# Altium integrated library NSC OtherParts.IntLib: 55 symbols (part 1 of 2)
Pins are listed as number, name and electrical type; pins without a type are passive.

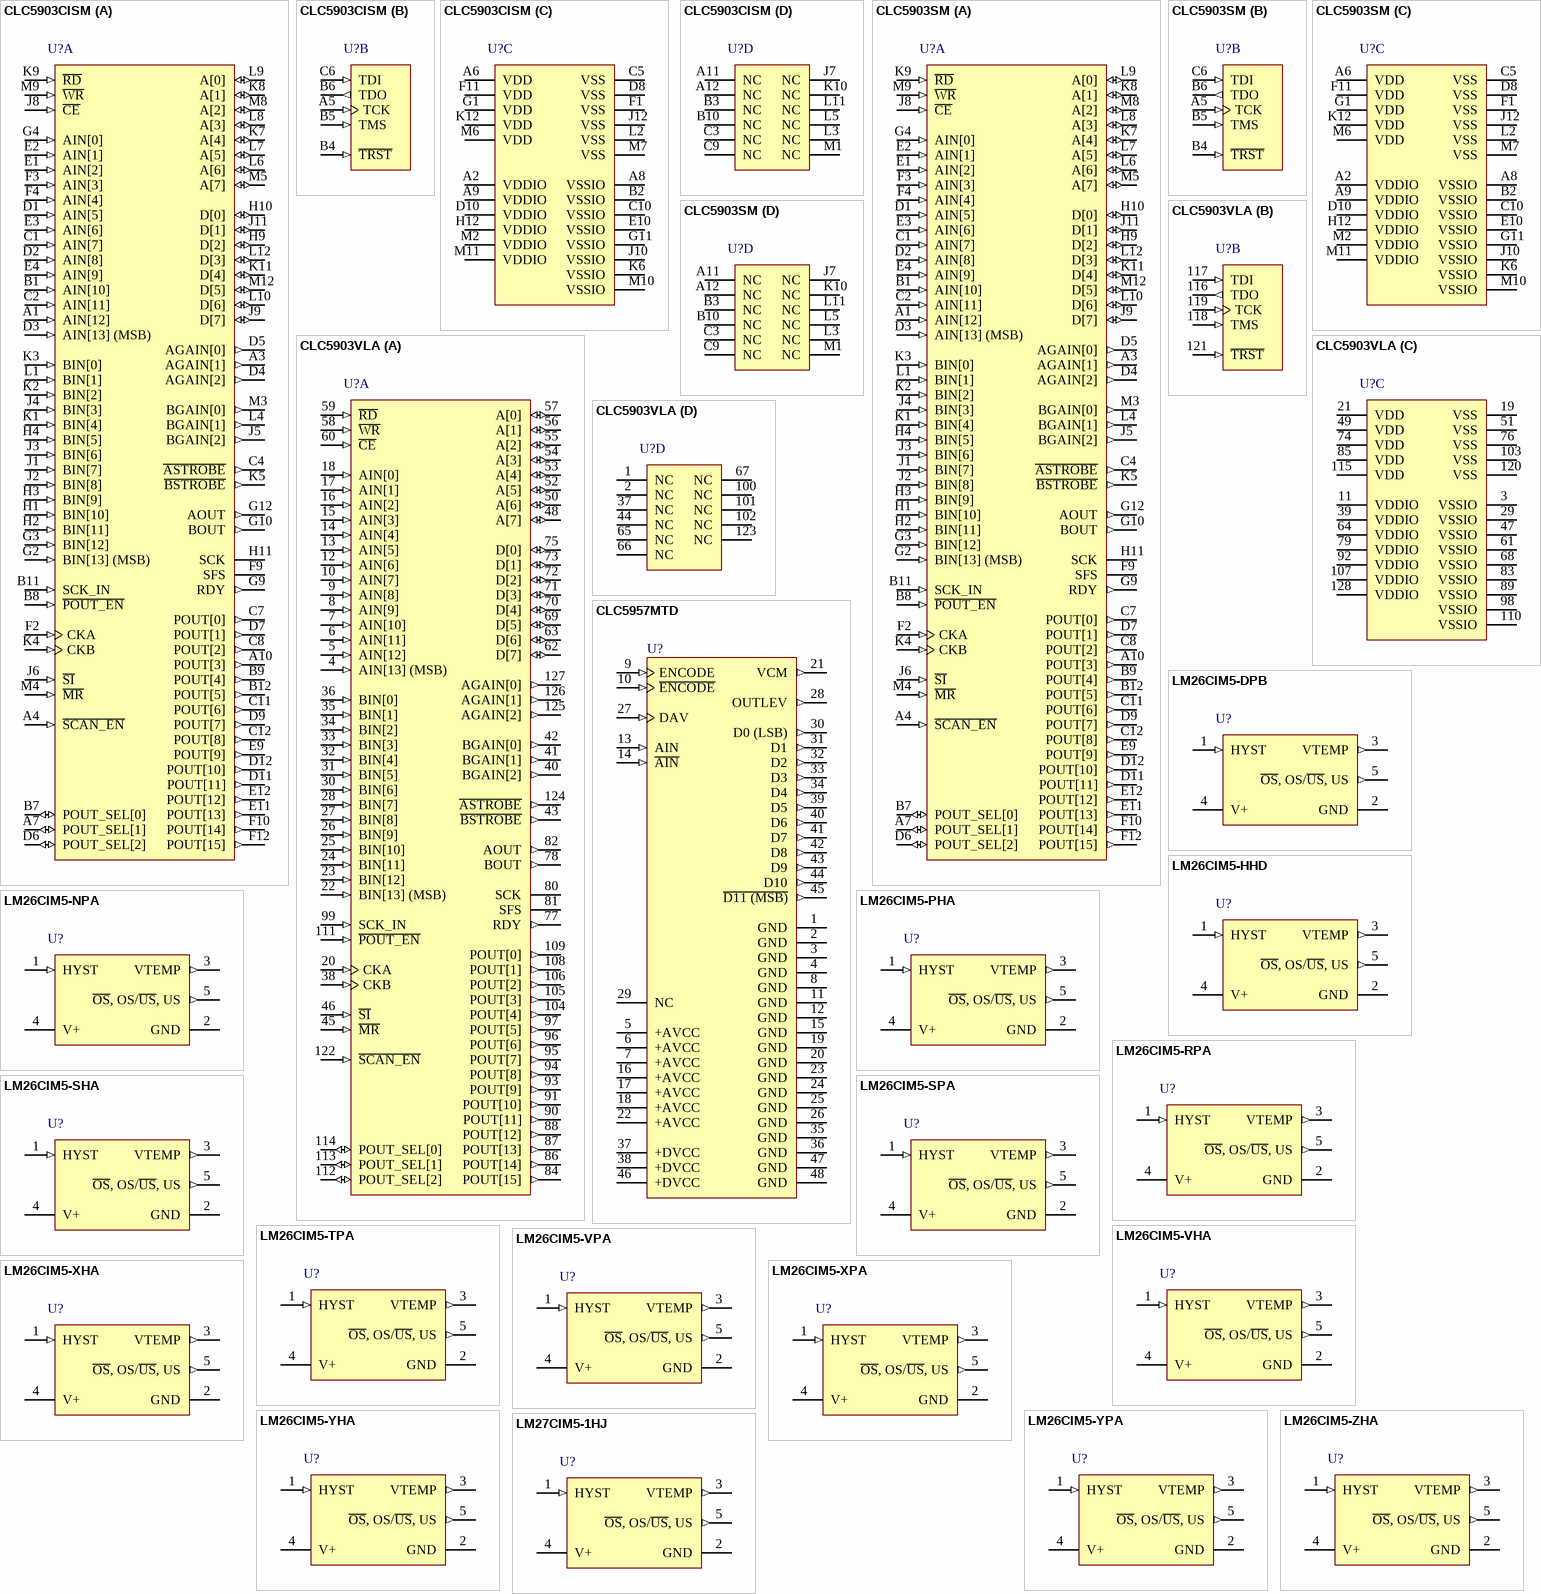
[diagram p0: symbols CLC5903CISM to LM27CIM5-1HJ]

## CLC5903CISM
designator U?
Dual Digital Tuner/AGC; PartNumber: CLC5903CISM; Manufacturer: National Semiconductor; CompType: OtherParts; PackageTopMarking: NSUZXYTT*CLC5903*CISM; Published: 4-Dec-2008; DatasheetVersion: Jun-2004; PackageVersion: revA, Nov-2005; PackageReference: SLC128B; Publisher: Altium Limited; PackageDescription: FBGA, Plastic, Laminated, 11 x 11 x 1.4mm Body, 128 Ball, 0.8mm Pitch; RoHS: Y; PinCount: 128; ComponentLink1Description: CLC5903 Datasheet; ComponentLink1URL: http://www.national.com/ds/CL/CLC5903.pdf; ComponentLink2Description: CLC5903 Web Page; ComponentLink2URL: http://www.national.com/pf/CL/CLC5903.html; ComponentLink3Description: SLC128B Package Page; ComponentLink3URL: http://www.national.com/packaging/folders/slc128b.html
footprint SLC128B (BGA, 128-Leads, Body 11x11mm, Pitch 0.8mm)
part A pins: A1 AIN[12] (in), A3 AGAIN[1] (out), A4 ~{SCAN_EN} (in), A7 POUT_SEL[1] (io), A10 POUT[3] (out), B1 AIN[10] (in), B7 POUT_SEL[0] (io), B8 ~{POUT_EN} (in), B9 POUT[4] (out), B11 SCK_IN (in), B12 POUT[5] (out), C1 AIN[7] (in), C2 AIN[11] (in), C4 ~{ASTROBE} (out), C7 POUT[0] (out), C8 POUT[2] (out), C11 POUT[6] (out), C12 POUT[8] (out), D1 AIN[5] (in), D2 AIN[8] (in), D3 AIN[13] (MSB) (in), D4 AGAIN[2] (out), D5 AGAIN[0] (out), D6 POUT_SEL[2] (io), D7 POUT[1] (out), D9 POUT[7] (out), D11 POUT[11] (out), D12 POUT[10] (out), E1 AIN[2] (in), E2 AIN[1] (in), E3 AIN[6] (in), E4 AIN[9] (in), E9 POUT[9] (out), E11 POUT[13] (out), E12 POUT[12] (out), F2 CKA (in), F3 AIN[3] (in), F4 AIN[4] (in), F9 SFS, F10 POUT[14] (out), F12 POUT[15] (out), G2 BIN[13] (MSB) (in), G3 BIN[12] (in), G4 AIN[0] (in), G9 RDY (out), G10 BOUT (out), G12 AOUT (out), H1 BIN[10] (in), H2 BIN[11] (in), H3 BIN[9] (in), H4 BIN[5] (in), H9 D[2] (io), H10 D[0] (io), H11 SCK, J1 BIN[7] (in), J2 BIN[8] (in), J3 BIN[6] (in), J4 BIN[3] (in), J5 BGAIN[2] (out), J6 ~{SI} (in), J8 ~{CE} (in), J9 D[7] (io), J11 D[1] (io), K1 BIN[4] (in), K2 BIN[2] (in), K3 BIN[0] (in), K4 CKB (in), K5 ~{BSTROBE} (out), K7 A[4] (io), K8 A[1] (io), K9 ~{RD} (in), K11 D[4] (io), L1 BIN[1] (in), L4 BGAIN[1] (out), L6 A[6] (io), L7 A[5] (io), L8 A[3] (io), L9 A[0] (io), L10 D[6] (io), L12 D[3] (io), M3 BGAIN[0] (out), M4 ~{MR} (in), M5 A[7] (io), M8 A[2] (io), M9 ~{WR} (in), M12 D[5] (io)
part B pins: A5 TCK (in), B4 ~{TRST} (in), B5 TMS (in), B6 TDO (out), C6 TDI (in)
part C pins: A2 VDDIO (power), A6 VDD (power), A8 VSSIO (power), A9 VDDIO (power), B2 VSSIO (power), C5 VSS (power), C10 VSSIO (power), D8 VSS (power), D10 VDDIO (power), E10 VSSIO (power), F1 VSS (power), F11 VDD (power), G1 VDD (power), G11 VSSIO (power), H12 VDDIO (power), J10 VSSIO (power), J12 VSS (power), K6 VSSIO (power), K12 VDD (power), L2 VSS (power), M2 VDDIO (power), M6 VDD (power), M7 VSS (power), M10 VSSIO (power), M11 VDDIO (power)
part D pins: A11 NC, A12 NC, B3 NC, B10 NC, C3 NC, C9 NC, J7 NC, K10 NC, L3 NC, L5 NC, L11 NC, M1 NC

## CLC5903SM
designator U?
Dual Digital Tuner / AGC; PartNumber: CLC5903SM; Manufacturer: National Semiconductor; CompType: OtherParts; PackageTopMarking: NSUZXYYTT*CLC5903SM; Published: 4-Dec-2008; DatasheetVersion: Jun-2004; PackageVersion: revA, Oct-2003; PackageReference: SLC128A; Publisher: Altium Limited; PackageDescription: FBGA, Plastic, Laminated, 11 x 11 x 1.4mm Body, 128 Ball, 0.8mm Pitch; RoHS: O; PinCount: 128; DigiKeyPartNumber: CLC5903SM-ND; ComponentLink1Description: CLC5903 Datasheet; ComponentLink1URL: http://www.national.com/ds.cgi/CL/CLC5903.pdf; ComponentLink2Description: CLC5903 Web Page; ComponentLink2URL: http://www.national.com/pf/CL/CLC5903.html; ComponentLink3Description: SLC128A package page; ComponentLink3URL: http://www.national.com/packaging/folders/slc128a.html
footprint SLC128A (BGA, 128-Leads, Body 11x11mm, Pitch 0.8mm)
part A pins: A1 AIN[12] (in), A3 AGAIN[1] (out), A4 ~{SCAN_EN} (in), A7 POUT_SEL[1] (io), A10 POUT[3] (out), B1 AIN[10] (in), B7 POUT_SEL[0] (io), B8 ~{POUT_EN} (in), B9 POUT[4] (out), B11 SCK_IN (in), B12 POUT[5] (out), C1 AIN[7] (in), C2 AIN[11] (in), C4 ~{ASTROBE} (out), C7 POUT[0] (out), C8 POUT[2] (out), C11 POUT[6] (out), C12 POUT[8] (out), D1 AIN[5] (in), D2 AIN[8] (in), D3 AIN[13] (MSB) (in), D4 AGAIN[2] (out), D5 AGAIN[0] (out), D6 POUT_SEL[2] (io), D7 POUT[1] (out), D9 POUT[7] (out), D11 POUT[11] (out), D12 POUT[10] (out), E1 AIN[2] (in), E2 AIN[1] (in), E3 AIN[6] (in), E4 AIN[9] (in), E9 POUT[9] (out), E11 POUT[13] (out), E12 POUT[12] (out), F2 CKA (in), F3 AIN[3] (in), F4 AIN[4] (in), F9 SFS, F10 POUT[14] (out), F12 POUT[15] (out), G2 BIN[13] (MSB) (in), G3 BIN[12] (in), G4 AIN[0] (in), G9 RDY (out), G10 BOUT (out), G12 AOUT (out), H1 BIN[10] (in), H2 BIN[11] (in), H3 BIN[9] (in), H4 BIN[5] (in), H9 D[2] (io), H10 D[0] (io), H11 SCK, J1 BIN[7] (in), J2 BIN[8] (in), J3 BIN[6] (in), J4 BIN[3] (in), J5 BGAIN[2] (out), J6 ~{SI} (in), J8 ~{CE} (in), J9 D[7] (io), J11 D[1] (io), K1 BIN[4] (in), K2 BIN[2] (in), K3 BIN[0] (in), K4 CKB (in), K5 ~{BSTROBE} (out), K7 A[4] (io), K8 A[1] (io), K9 ~{RD} (in), K11 D[4] (io), L1 BIN[1] (in), L4 BGAIN[1] (out), L6 A[6] (io), L7 A[5] (io), L8 A[3] (io), L9 A[0] (io), L10 D[6] (io), L12 D[3] (io), M3 BGAIN[0] (out), M4 ~{MR} (in), M5 A[7] (io), M8 A[2] (io), M9 ~{WR} (in), M12 D[5] (io)
part B pins: A5 TCK (in), B4 ~{TRST} (in), B5 TMS (in), B6 TDO (out), C6 TDI (in)
part C pins: A2 VDDIO (power), A6 VDD (power), A8 VSSIO (power), A9 VDDIO (power), B2 VSSIO (power), C5 VSS (power), C10 VSSIO (power), D8 VSS (power), D10 VDDIO (power), E10 VSSIO (power), F1 VSS (power), F11 VDD (power), G1 VDD (power), G11 VSSIO (power), H12 VDDIO (power), J10 VSSIO (power), J12 VSS (power), K6 VSSIO (power), K12 VDD (power), L2 VSS (power), M2 VDDIO (power), M6 VDD (power), M7 VSS (power), M10 VSSIO (power), M11 VDDIO (power)
part D pins: A11 NC, A12 NC, B3 NC, B10 NC, C3 NC, C9 NC, J7 NC, K10 NC, L3 NC, L5 NC, L11 NC, M1 NC

## CLC5903VLA
designator U?
Dual Digital Tuner / AGC; PartNumber: CLC5903VLA; Manufacturer: National Semiconductor; CompType: OtherParts; PackageTopMarking: NSUZXYYTTE*CLC5903VLA; Published: 4-Dec-2008; DatasheetVersion: Jun-2004; PackageVersion: revC, Jun-1998; PackageReference: VLA128A; Publisher: Altium Limited; PackageDescription: PQFP, (S), 14 x 20 x 2.7mm, 128 Lead; RoHS: O; PinCount: 128; DigiKeyPartNumber: CLC5903VLA-ND; ComponentLink1Description: CLC5903 Datasheet; ComponentLink1URL: http://www.national.com/ds.cgi/CL/CLC5903.pdf; ComponentLink2Description: CLC5903 Web Page; ComponentLink2URL: http://www.national.com/pf/CL/CLC5903.html; ComponentLink3Description: VLA128A package page; ComponentLink3URL: http://www.national.com/packaging/folders/vla128a.html
footprint VLA128A_N (Shrink QFP, 128-Leads, Body 20x14 mm, Pitch 0.5mm, IPC Medium Density)
footprint VLA128A_L (Shrink QFP, 128-Leads, Body 20x14 mm, Pitch 0.5mm, IPC High Density)
footprint VLA128A_M (Shrink QFP, 128-Leads, Body 20x14 mm, Pitch 0.5mm, IPC Low Density)
part A pins: 4 AIN[13] (MSB) (in), 5 AIN[12] (in), 6 AIN[11] (in), 7 AIN[10] (in), 8 AIN[9] (in), 9 AIN[8] (in), 10 AIN[7] (in), 12 AIN[6] (in), 13 AIN[5] (in), 14 AIN[4] (in), 15 AIN[3] (in), 16 AIN[2] (in), 17 AIN[1] (in), 18 AIN[0] (in), 20 CKA (in), 22 BIN[13] (MSB) (in), 23 BIN[12] (in), 24 BIN[11] (in), 25 BIN[10] (in), 26 BIN[9] (in), 27 BIN[8] (in), 28 BIN[7] (in), 30 BIN[6] (in), 31 BIN[5] (in), 32 BIN[4] (in), 33 BIN[3] (in), 34 BIN[2] (in), 35 BIN[1] (in), 36 BIN[0] (in), 38 CKB (in), 40 BGAIN[2] (out), 41 BGAIN[1] (out), 42 BGAIN[0] (out), 43 ~{BSTROBE} (out), 45 ~{MR} (in), 46 ~{SI} (in), 48 A[7] (io), 50 A[6] (io), 52 A[5] (io), 53 A[4] (io), 54 A[3] (io), 55 A[2] (io), 56 A[1] (io), 57 A[0] (io), 58 ~{WR} (in), 59 ~{RD} (in), 60 ~{CE} (in), 62 D[7] (io), 63 D[6] (io), 69 D[5] (io), 70 D[4] (io), 71 D[3] (io), 72 D[2] (io), 73 D[1] (io), 75 D[0] (io), 77 RDY (out), 78 BOUT (out), 80 SCK, 81 SFS, 82 AOUT (out), 84 POUT[15] (out), 86 POUT[14] (out), 87 POUT[13] (out), 88 POUT[12] (out), 90 POUT[11] (out), 91 POUT[10] (out), 93 POUT[9] (out), 94 POUT[8] (out), 95 POUT[7] (out), 96 POUT[6] (out), 97 POUT[5] (out), 99 SCK_IN (in), 104 POUT[4] (out), 105 POUT[3] (out), 106 POUT[2] (out), 108 POUT[1] (out), 109 POUT[0] (out), 111 ~{POUT_EN} (in), 112 POUT_SEL[2] (io), 113 POUT_SEL[1] (io), 114 POUT_SEL[0] (io), 122 ~{SCAN_EN} (in), 124 ~{ASTROBE} (out), 125 AGAIN[2] (out), 126 AGAIN[1] (out), 127 AGAIN[0] (out)
part B pins: 116 TDO (out), 117 TDI (in), 118 TMS (in), 119 TCK (in), 121 ~{TRST} (in)
part C pins: 3 VSSIO (power), 11 VDDIO (power), 19 VSS (power), 21 VDD (power), 29 VSSIO (power), 39 VDDIO (power), 47 VSSIO (power), 49 VDD (power), 51 VSS (power), 61 VSSIO (power), 64 VDDIO (power), 68 VSSIO (power), 74 VDD (power), 76 VSS (power), 79 VDDIO (power), 83 VSSIO (power), 85 VDD (power), 89 VSSIO (power), 92 VDDIO (power), 98 VSSIO (power), 103 VSS (power), 107 VDDIO (power), 110 VSSIO (power), 115 VDD (power), 120 VSS (power), 128 VDDIO (power)
part D pins: 1 NC, 2 NC, 37 NC, 44 NC, 65 NC, 66 NC, 67 NC, 100 NC, 101 NC, 102 NC, 123 NC

## CLC5957MTD
designator U?
12-Bit, 70 MSPS Broadband Monolithic A/D Converter; PartNumber: CLC5957MTD; Manufacturer: National Semiconductor; CompType: OtherParts; PackageTopMarking: NSUZXYTT*CLC5957MTD; Published: 4-Dec-2008; DatasheetVersion: Apr-2002; PackageVersion: revE, Apr-2003; PackageReference: MTD48; Publisher: Altium Limited; PackageDescription: Molded TSSOP, Jedec, 12.5 x 6.1 x 0.9mm Body, 48 Lead, 0.50mm Pitch; RoHS: O; PinCount: 48; DigiKeyPartNumber: CLC5957MTD-ND; Code_JEDEC: MO-153-ED; ComponentLink1Description: CLC5957 Datasheet; ComponentLink1URL: http://www.national.com/ds.cgi/CL/CLC5957.pdf; ComponentLink2Description: CLC5957 Web Page; ComponentLink2URL: http://www.national.com/pf/CL/CLC5957.html; ComponentLink3Description: MTD48 package page; ComponentLink3URL: http://www.national.com/packaging/folders/mtd48.html
footprint MTD48_N (TSSOP, 48-Leads, Body 12.5x6.1mm, Pitch 0.5mm, IPC Medium Density)
footprint MTD48_L (TSSOP, 48-Leads, Body 12.5x6.1mm, Pitch 0.5mm, IPC High Density)
footprint MTD48_M (TSSOP, 48-Leads, Body 12.5x6.1mm, Pitch 0.5mm, IPC Low Density)
pins: 1 GND (power), 2 GND (power), 3 GND (power), 4 GND (power), 5 +AVCC (power), 6 +AVCC (power), 7 +AVCC (power), 8 GND (power), 9 ENCODE (in), 10 ~{ENCODE} (in), 11 GND (power), 12 GND (power), 13 AIN (in), 14 ~{AIN} (in), 15 GND (power), 16 +AVCC (power), 17 +AVCC (power), 18 +AVCC (power), 19 GND (power), 20 GND (power), 21 VCM (out), 22 +AVCC (power), 23 GND (power), 24 GND (power), 25 GND (power), 26 GND (power), 27 DAV (in), 28 OUTLEV (out), 29 NC, 30 D0 (LSB) (out), 31 D1 (out), 32 D2 (out), 33 D3 (out), 34 D4 (out), 35 GND (power), 36 GND (power), 37 +DVCC (power), 38 +DVCC (power), 39 D5 (out), 40 D6 (out), 41 D7 (out), 42 D8 (out), 43 D9 (out), 44 D10 (out), 45 ~{D11 (MSB)} (out), 46 +DVCC (power), 47 GND (power), 48 GND (power)

## LM26CIM5-DPB
designator U?
SOT-23, ±3°C Accurate, Factory Preset Thermostat; PartNumber: LM26CIM5-DPB; Manufacturer: National Semiconductor; CompType: OtherParts; PackageTopMarking: TDPB*XTT; Published: 4-Dec-2008; DatasheetVersion: Jul-2008; PackageVersion: revD, Aug-2008; PackageReference: MF05A; Publisher: Altium Limited; PackageDescription: Molded SOT-23, .115 x .063 x .040 in Body, 5 Lead, .0375 in Pitch; RoHS: Y; PinCount: 5; DigiKeyPartNumber: LM26CIM5-DPB/NOPBCT-ND; Code_IPC: SOT23-5; ComponentLink1Description: LM26 Datasheet; ComponentLink1URL: http://www.national.com/ds/LM/LM26.pdf; ComponentLink2Description: LM26 Web Page; ComponentLink2URL: http://www.national.com/pf/LM/LM26.html; ComponentLink3Description: MF05A Package Page; ComponentLink3URL: http://www.national.com/packaging/folders/mf05a.html
footprint MF05A_N (SOT23, 5-Leads, Body 2.9x1.6mm, Pitch 0.95mm, Lead Span 2.8mm, IPC Medium Density)
footprint MF05A_L (SOT23, 5-Leads, Body 2.9x1.6mm, Pitch 0.95mm, Lead Span 2.8mm, IPC High Density)
footprint MF05A_M (SOT23, 5-Leads, Body 2.9x1.6mm, Pitch 0.95mm, Lead Span 2.8mm, IPC Low Density)
pins: 1 HYST (in), 2 GND (power), 3 VTEMP (out), 4 V+ (power), 5 ~{OS}, OS/~{US}, US (out)

## LM26CIM5-HHD
designator U?
SOT-23, ±3°C Accurate, Factory Preset Thermostat; PartNumber: LM26CIM5-HHD; Manufacturer: National Semiconductor; CompType: OtherParts; PackageTopMarking: THHD*XTT; Published: 4-Dec-2008; DatasheetVersion: Jul-2008; PackageVersion: revD, Aug-2008; PackageReference: MF05A; Publisher: Altium Limited; PackageDescription: Molded SOT-23, .115 x .063 x .040 in Body, 5 Lead, .0375 in Pitch; RoHS: Y; PinCount: 5; DigiKeyPartNumber: LM26CIM5-HHDCT-ND; Code_IPC: SOT23-5; ComponentLink1Description: LM26 Datasheet; ComponentLink1URL: http://www.national.com/ds/LM/LM26.pdf; ComponentLink2Description: LM26 Web Page; ComponentLink2URL: http://www.national.com/pf/LM/LM26.html; ComponentLink3Description: MF05A Package Page; ComponentLink3URL: http://www.national.com/packaging/folders/mf05a.html
footprint MF05A_N (SOT23, 5-Leads, Body 2.9x1.6mm, Pitch 0.95mm, Lead Span 2.8mm, IPC Medium Density)
footprint MF05A_L (SOT23, 5-Leads, Body 2.9x1.6mm, Pitch 0.95mm, Lead Span 2.8mm, IPC High Density)
footprint MF05A_M (SOT23, 5-Leads, Body 2.9x1.6mm, Pitch 0.95mm, Lead Span 2.8mm, IPC Low Density)
pins: 1 HYST (in), 2 GND (power), 3 VTEMP (out), 4 V+ (power), 5 ~{OS}, OS/~{US}, US (out)

## LM26CIM5-NPA
designator U?
SOT-23, ±3°C Accurate, Factory Preset Thermostat; PartNumber: LM26CIM5-NPA; Manufacturer: National Semiconductor; CompType: OtherParts; PackageTopMarking: TNPA*XTT; Published: 4-Dec-2008; DatasheetVersion: Jul-2008; PackageVersion: revD, Aug-2008; PackageReference: MF05A; Publisher: Altium Limited; PackageDescription: Molded SOT-23, .115 x .063 x .040 in Body, 5 Lead, .0375 in Pitch; RoHS: O; PinCount: 5; DigiKeyPartNumber: LM26CIM5-NPACT-ND; Code_IPC: SOT23-5; ComponentLink1Description: LM26 Datasheet; ComponentLink1URL: http://www.national.com/ds/LM/LM26.pdf; ComponentLink2Description: LM26 Web Page; ComponentLink2URL: http://www.national.com/pf/LM/LM26.html; ComponentLink3Description: MF05A Package Page; ComponentLink3URL: http://www.national.com/packaging/folders/mf05a.html
footprint MF05A_N (SOT23, 5-Leads, Body 2.9x1.6mm, Pitch 0.95mm, Lead Span 2.8mm, IPC Medium Density)
footprint MF05A_L (SOT23, 5-Leads, Body 2.9x1.6mm, Pitch 0.95mm, Lead Span 2.8mm, IPC High Density)
footprint MF05A_M (SOT23, 5-Leads, Body 2.9x1.6mm, Pitch 0.95mm, Lead Span 2.8mm, IPC Low Density)
pins: 1 HYST (in), 2 GND (power), 3 VTEMP (out), 4 V+ (power), 5 ~{OS}, OS/~{US}, US (out)

## LM26CIM5-PHA
designator U?
SOT-23, ±3°C Accurate, Factory Preset Thermostat; PartNumber: LM26CIM5-PHA; Manufacturer: National Semiconductor; CompType: OtherParts; PackageTopMarking: TPHA*XTT; Published: 4-Dec-2008; DatasheetVersion: Jul-2008; PackageVersion: revD, Aug-2008; PackageReference: MF05A; Publisher: Altium Limited; PackageDescription: Molded SOT-23, .115 x .063 x .040 in Body, 5 Lead, .0375 in Pitch; RoHS: O; PinCount: 5; DigiKeyPartNumber: LM26CIM5-PHACT-ND; Code_IPC: SOT23-5; ComponentLink1Description: LM26 Datasheet; ComponentLink1URL: http://www.national.com/ds/LM/LM26.pdf; ComponentLink2Description: LM26 Web Page; ComponentLink2URL: http://www.national.com/pf/LM/LM26.html; ComponentLink3Description: MF05A Package Page; ComponentLink3URL: http://www.national.com/packaging/folders/mf05a.html
footprint MF05A_N (SOT23, 5-Leads, Body 2.9x1.6mm, Pitch 0.95mm, Lead Span 2.8mm, IPC Medium Density)
footprint MF05A_L (SOT23, 5-Leads, Body 2.9x1.6mm, Pitch 0.95mm, Lead Span 2.8mm, IPC High Density)
footprint MF05A_M (SOT23, 5-Leads, Body 2.9x1.6mm, Pitch 0.95mm, Lead Span 2.8mm, IPC Low Density)
pins: 1 HYST (in), 2 GND (power), 3 VTEMP (out), 4 V+ (power), 5 ~{OS}, OS/~{US}, US (out)

## LM26CIM5-RPA
designator U?
SOT-23, ±3°C Accurate, Factory Preset Thermostat; PartNumber: LM26CIM5-RPA; Manufacturer: National Semiconductor; CompType: OtherParts; PackageTopMarking: TRPA*XTT; Published: 4-Dec-2008; DatasheetVersion: Jul-2008; PackageVersion: revD, Aug-2008; PackageReference: MF05A; Publisher: Altium Limited; PackageDescription: Molded SOT-23, .115 x .063 x .040 in Body, 5 Lead, .0375 in Pitch; RoHS: O; PinCount: 5; DigiKeyPartNumber: LM26CIM5-RPACT-ND; Code_IPC: SOT23-5; ComponentLink1Description: LM26 Datasheet; ComponentLink1URL: http://www.national.com/ds/LM/LM26.pdf; ComponentLink2Description: LM26 Web Page; ComponentLink2URL: http://www.national.com/pf/LM/LM26.html; ComponentLink3Description: MF05A Package Page; ComponentLink3URL: http://www.national.com/packaging/folders/mf05a.html
footprint MF05A_N (SOT23, 5-Leads, Body 2.9x1.6mm, Pitch 0.95mm, Lead Span 2.8mm, IPC Medium Density)
footprint MF05A_L (SOT23, 5-Leads, Body 2.9x1.6mm, Pitch 0.95mm, Lead Span 2.8mm, IPC High Density)
footprint MF05A_M (SOT23, 5-Leads, Body 2.9x1.6mm, Pitch 0.95mm, Lead Span 2.8mm, IPC Low Density)
pins: 1 HYST (in), 2 GND (power), 3 VTEMP (out), 4 V+ (power), 5 ~{OS}, OS/~{US}, US (out)

## LM26CIM5-SHA
designator U?
SOT-23, ±3°C Accurate, Factory Preset Thermostat; PartNumber: LM26CIM5-SHA; Manufacturer: National Semiconductor; CompType: OtherParts; PackageTopMarking: TSHA*XTT; Published: 4-Dec-2008; DatasheetVersion: Jul-2008; PackageVersion: revD, Aug-2008; PackageReference: MF05A; Publisher: Altium Limited; PackageDescription: Molded SOT-23, .115 x .063 x .040 in Body, 5 Lead, .0375 in Pitch; RoHS: O; PinCount: 5; DigiKeyPartNumber: LM26CIM5-SHACT-ND; Code_IPC: SOT23-5; ComponentLink1Description: LM26 Datasheet; ComponentLink1URL: http://www.national.com/ds/LM/LM26.pdf; ComponentLink2Description: LM26 Web Page; ComponentLink2URL: http://www.national.com/pf/LM/LM26.html; ComponentLink3Description: MF05A Package Page; ComponentLink3URL: http://www.national.com/packaging/folders/mf05a.html
footprint MF05A_N (SOT23, 5-Leads, Body 2.9x1.6mm, Pitch 0.95mm, Lead Span 2.8mm, IPC Medium Density)
footprint MF05A_L (SOT23, 5-Leads, Body 2.9x1.6mm, Pitch 0.95mm, Lead Span 2.8mm, IPC High Density)
footprint MF05A_M (SOT23, 5-Leads, Body 2.9x1.6mm, Pitch 0.95mm, Lead Span 2.8mm, IPC Low Density)
pins: 1 HYST (in), 2 GND (power), 3 VTEMP (out), 4 V+ (power), 5 ~{OS}, OS/~{US}, US (out)

## LM26CIM5-SPA
designator U?
SOT-23, ±3°C Accurate, Factory Preset Thermostat; PartNumber: LM26CIM5-SPA; Manufacturer: National Semiconductor; CompType: OtherParts; PackageTopMarking: TSPA*XTT; Published: 4-Dec-2008; DatasheetVersion: Jul-2008; PackageVersion: revD, Aug-2008; PackageReference: MF05A; Publisher: Altium Limited; PackageDescription: Molded SOT-23, .115 x .063 x .040 in Body, 5 Lead, .0375 in Pitch; RoHS: O; PinCount: 5; DigiKeyPartNumber: LM26CIM5-SPACT-ND; Code_IPC: SOT23-5; ComponentLink1Description: LM26 Datasheet; ComponentLink1URL: http://www.national.com/ds/LM/LM26.pdf; ComponentLink2Description: LM26 Web Page; ComponentLink2URL: http://www.national.com/pf/LM/LM26.html; ComponentLink3Description: MF05A Package Page; ComponentLink3URL: http://www.national.com/packaging/folders/mf05a.html
footprint MF05A_N (SOT23, 5-Leads, Body 2.9x1.6mm, Pitch 0.95mm, Lead Span 2.8mm, IPC Medium Density)
footprint MF05A_L (SOT23, 5-Leads, Body 2.9x1.6mm, Pitch 0.95mm, Lead Span 2.8mm, IPC High Density)
footprint MF05A_M (SOT23, 5-Leads, Body 2.9x1.6mm, Pitch 0.95mm, Lead Span 2.8mm, IPC Low Density)
pins: 1 HYST (in), 2 GND (power), 3 VTEMP (out), 4 V+ (power), 5 ~{OS}, OS/~{US}, US (out)

## LM26CIM5-TPA
designator U?
SOT-23, ±3°C Accurate, Factory Preset Thermostat; PartNumber: LM26CIM5-TPA; Manufacturer: National Semiconductor; CompType: OtherParts; PackageTopMarking: TTPA*XTT; Published: 4-Dec-2008; DatasheetVersion: Jul-2008; PackageVersion: revD, Aug-2008; PackageReference: MF05A; Publisher: Altium Limited; PackageDescription: Molded SOT-23, .115 x .063 x .040 in Body, 5 Lead, .0375 in Pitch; RoHS: O; PinCount: 5; DigiKeyPartNumber: LM26CIM5-TPACT-ND; Code_IPC: SOT23-5; ComponentLink1Description: LM26 Datasheet; ComponentLink1URL: http://www.national.com/ds/LM/LM26.pdf; ComponentLink2Description: LM26 Web Page; ComponentLink2URL: http://www.national.com/pf/LM/LM26.html; ComponentLink3Description: MF05A Package Page; ComponentLink3URL: http://www.national.com/packaging/folders/mf05a.html
footprint MF05A_N (SOT23, 5-Leads, Body 2.9x1.6mm, Pitch 0.95mm, Lead Span 2.8mm, IPC Medium Density)
footprint MF05A_L (SOT23, 5-Leads, Body 2.9x1.6mm, Pitch 0.95mm, Lead Span 2.8mm, IPC High Density)
footprint MF05A_M (SOT23, 5-Leads, Body 2.9x1.6mm, Pitch 0.95mm, Lead Span 2.8mm, IPC Low Density)
pins: 1 HYST (in), 2 GND (power), 3 VTEMP (out), 4 V+ (power), 5 ~{OS}, OS/~{US}, US (out)

## LM26CIM5-VHA
designator U?
SOT-23, ±3°C Accurate, Factory Preset Thermostat; PartNumber: LM26CIM5-VHA; Manufacturer: National Semiconductor; CompType: OtherParts; PackageTopMarking: TVHA*XTT; Published: 4-Dec-2008; DatasheetVersion: Jul-2008; PackageVersion: revD, Aug-2008; PackageReference: MF05A; Publisher: Altium Limited; PackageDescription: Molded SOT-23, .115 x .063 x .040 in Body, 5 Lead, .0375 in Pitch; RoHS: O; PinCount: 5; DigiKeyPartNumber: LM26CIM5-VHACT-ND; Code_IPC: SOT23-5; ComponentLink1Description: LM26 Datasheet; ComponentLink1URL: http://www.national.com/ds/LM/LM26.pdf; ComponentLink2Description: LM26 Web Page; ComponentLink2URL: http://www.national.com/pf/LM/LM26.html; ComponentLink3Description: MF05A Package Page; ComponentLink3URL: http://www.national.com/packaging/folders/mf05a.html
footprint MF05A_N (SOT23, 5-Leads, Body 2.9x1.6mm, Pitch 0.95mm, Lead Span 2.8mm, IPC Medium Density)
footprint MF05A_L (SOT23, 5-Leads, Body 2.9x1.6mm, Pitch 0.95mm, Lead Span 2.8mm, IPC High Density)
footprint MF05A_M (SOT23, 5-Leads, Body 2.9x1.6mm, Pitch 0.95mm, Lead Span 2.8mm, IPC Low Density)
pins: 1 HYST (in), 2 GND (power), 3 VTEMP (out), 4 V+ (power), 5 ~{OS}, OS/~{US}, US (out)

## LM26CIM5-VPA
designator U?
SOT-23, ±3°C Accurate, Factory Preset Thermostat; PartNumber: LM26CIM5-VPA; Manufacturer: National Semiconductor; CompType: OtherParts; PackageTopMarking: TVPA*XTT; Published: 4-Dec-2008; DatasheetVersion: Jul-2008; PackageVersion: revD, Aug-2008; PackageReference: MF05A; Publisher: Altium Limited; PackageDescription: Molded SOT-23, .115 x .063 x .040 in Body, 5 Lead, .0375 in Pitch; RoHS: O; PinCount: 5; DigiKeyPartNumber: LM26CIM5-VPACT-ND; Code_IPC: SOT23-5; ComponentLink1Description: LM26 Datasheet; ComponentLink1URL: http://www.national.com/ds/LM/LM26.pdf; ComponentLink2Description: LM26 Web Page; ComponentLink2URL: http://www.national.com/pf/LM/LM26.html; ComponentLink3Description: MF05A Package Page; ComponentLink3URL: http://www.national.com/packaging/folders/mf05a.html
footprint MF05A_N (SOT23, 5-Leads, Body 2.9x1.6mm, Pitch 0.95mm, Lead Span 2.8mm, IPC Medium Density)
footprint MF05A_L (SOT23, 5-Leads, Body 2.9x1.6mm, Pitch 0.95mm, Lead Span 2.8mm, IPC High Density)
footprint MF05A_M (SOT23, 5-Leads, Body 2.9x1.6mm, Pitch 0.95mm, Lead Span 2.8mm, IPC Low Density)
pins: 1 HYST (in), 2 GND (power), 3 VTEMP (out), 4 V+ (power), 5 ~{OS}, OS/~{US}, US (out)

## LM26CIM5-XHA
designator U?
SOT-23, ±3°C Accurate, Factory Preset Thermostat; PartNumber: LM26CIM5-XHA; Manufacturer: National Semiconductor; CompType: OtherParts; PackageTopMarking: TXHA*XTT; Published: 4-Dec-2008; DatasheetVersion: Jul-2008; PackageVersion: revD, Aug-2008; PackageReference: MF05A; Publisher: Altium Limited; PackageDescription: Molded SOT-23, .115 x .063 x .040 in Body, 5 Lead, .0375 in Pitch; RoHS: O; PinCount: 5; DigiKeyPartNumber: LM26CIM5-XHACT-ND; Code_IPC: SOT23-5; ComponentLink1Description: LM26 Datasheet; ComponentLink1URL: http://www.national.com/ds/LM/LM26.pdf; ComponentLink2Description: LM26 Web Page; ComponentLink2URL: http://www.national.com/pf/LM/LM26.html; ComponentLink3Description: MF05A Package Page; ComponentLink3URL: http://www.national.com/packaging/folders/mf05a.html
footprint MF05A_N (SOT23, 5-Leads, Body 2.9x1.6mm, Pitch 0.95mm, Lead Span 2.8mm, IPC Medium Density)
footprint MF05A_L (SOT23, 5-Leads, Body 2.9x1.6mm, Pitch 0.95mm, Lead Span 2.8mm, IPC High Density)
footprint MF05A_M (SOT23, 5-Leads, Body 2.9x1.6mm, Pitch 0.95mm, Lead Span 2.8mm, IPC Low Density)
pins: 1 HYST (in), 2 GND (power), 3 VTEMP (out), 4 V+ (power), 5 ~{OS}, OS/~{US}, US (out)

## LM26CIM5-XPA
designator U?
SOT-23, ±3°C Accurate, Factory Preset Thermostat; PartNumber: LM26CIM5-XPA; Manufacturer: National Semiconductor; CompType: OtherParts; PackageTopMarking: TXPA*XTT; Published: 4-Dec-2008; DatasheetVersion: Jul-2008; PackageVersion: revD, Aug-2008; PackageReference: MF05A; Publisher: Altium Limited; PackageDescription: Molded SOT-23, .115 x .063 x .040 in Body, 5 Lead, .0375 in Pitch; RoHS: O; PinCount: 5; DigiKeyPartNumber: LM26CIM5-XPACT-ND; Code_IPC: SOT23-5; ComponentLink1Description: LM26 Datasheet; ComponentLink1URL: http://www.national.com/ds/LM/LM26.pdf; ComponentLink2Description: LM26 Web Page; ComponentLink2URL: http://www.national.com/pf/LM/LM26.html; ComponentLink3Description: MF05A Package Page; ComponentLink3URL: http://www.national.com/packaging/folders/mf05a.html
footprint MF05A_N (SOT23, 5-Leads, Body 2.9x1.6mm, Pitch 0.95mm, Lead Span 2.8mm, IPC Medium Density)
footprint MF05A_L (SOT23, 5-Leads, Body 2.9x1.6mm, Pitch 0.95mm, Lead Span 2.8mm, IPC High Density)
footprint MF05A_M (SOT23, 5-Leads, Body 2.9x1.6mm, Pitch 0.95mm, Lead Span 2.8mm, IPC Low Density)
pins: 1 HYST (in), 2 GND (power), 3 VTEMP (out), 4 V+ (power), 5 ~{OS}, OS/~{US}, US (out)

## LM26CIM5-YHA
designator U?
SOT-23, ±3°C Accurate, Factory Preset Thermostat; PartNumber: LM26CIM5-YHA; Manufacturer: National Semiconductor; CompType: OtherParts; PackageTopMarking: TXPA*XTT; Published: 4-Dec-2008; DatasheetVersion: Jul-2008; PackageVersion: revD, Aug-2008; PackageReference: MF05A; Publisher: Altium Limited; PackageDescription: Molded SOT-23, .115 x .063 x .040 in Body, 5 Lead, .0375 in Pitch; RoHS: O; PinCount: 5; DigiKeyPartNumber: LM26CIM5-YHACT-ND; Code_IPC: SOT23-5; ComponentLink1Description: LM26 Datasheet; ComponentLink1URL: http://www.national.com/ds/LM/LM26.pdf; ComponentLink2Description: LM26 Web Page; ComponentLink2URL: http://www.national.com/pf/LM/LM26.html; ComponentLink3Description: MF05A Package Page; ComponentLink3URL: http://www.national.com/packaging/folders/mf05a.html
footprint MF05A_N (SOT23, 5-Leads, Body 2.9x1.6mm, Pitch 0.95mm, Lead Span 2.8mm, IPC Medium Density)
footprint MF05A_L (SOT23, 5-Leads, Body 2.9x1.6mm, Pitch 0.95mm, Lead Span 2.8mm, IPC High Density)
footprint MF05A_M (SOT23, 5-Leads, Body 2.9x1.6mm, Pitch 0.95mm, Lead Span 2.8mm, IPC Low Density)
pins: 1 HYST (in), 2 GND (power), 3 VTEMP (out), 4 V+ (power), 5 ~{OS}, OS/~{US}, US (out)

## LM26CIM5-YPA
designator U?
SOT-23, ±3°C Accurate, Factory Preset Thermostat; PartNumber: LM26CIM5-YPA; Manufacturer: National Semiconductor; CompType: OtherParts; PackageTopMarking: TXPA*XTT; Published: 4-Dec-2008; DatasheetVersion: Jul-2008; PackageVersion: revD, Aug-2008; PackageReference: MF05A; Publisher: Altium Limited; PackageDescription: Molded SOT-23, .115 x .063 x .040 in Body, 5 Lead, .0375 in Pitch; RoHS: O; PinCount: 5; DigiKeyPartNumber: LM26CIM5-YPACT-ND; Code_IPC: SOT23-5; ComponentLink1Description: LM26 Datasheet; ComponentLink1URL: http://www.national.com/ds/LM/LM26.pdf; ComponentLink2Description: LM26 Web Page; ComponentLink2URL: http://www.national.com/pf/LM/LM26.html; ComponentLink3Description: MF05A Package Page; ComponentLink3URL: http://www.national.com/packaging/folders/mf05a.html
footprint MF05A_N (SOT23, 5-Leads, Body 2.9x1.6mm, Pitch 0.95mm, Lead Span 2.8mm, IPC Medium Density)
footprint MF05A_L (SOT23, 5-Leads, Body 2.9x1.6mm, Pitch 0.95mm, Lead Span 2.8mm, IPC High Density)
footprint MF05A_M (SOT23, 5-Leads, Body 2.9x1.6mm, Pitch 0.95mm, Lead Span 2.8mm, IPC Low Density)
pins: 1 HYST (in), 2 GND (power), 3 VTEMP (out), 4 V+ (power), 5 ~{OS}, OS/~{US}, US (out)

## LM26CIM5-ZHA
designator U?
SOT-23, ±3°C Accurate, Factory Preset Thermostat; PartNumber: LM26CIM5-ZHA; Manufacturer: National Semiconductor; CompType: OtherParts; PackageTopMarking: TXPA*XTT; Published: 4-Dec-2008; DatasheetVersion: Jul-2008; PackageVersion: revD, Aug-2008; PackageReference: MF05A; Publisher: Altium Limited; PackageDescription: Molded SOT-23, .115 x .063 x .040 in Body, 5 Lead, .0375 in Pitch; RoHS: O; PinCount: 5; DigiKeyPartNumber: LM26CIM5-ZHACT-ND; Code_IPC: SOT23-5; ComponentLink1Description: LM26 Datasheet; ComponentLink1URL: http://www.national.com/ds/LM/LM26.pdf; ComponentLink2Description: LM26 Web Page; ComponentLink2URL: http://www.national.com/pf/LM/LM26.html; ComponentLink3Description: MF05A Package Page; ComponentLink3URL: http://www.national.com/packaging/folders/mf05a.html
footprint MF05A_N (SOT23, 5-Leads, Body 2.9x1.6mm, Pitch 0.95mm, Lead Span 2.8mm, IPC Medium Density)
footprint MF05A_L (SOT23, 5-Leads, Body 2.9x1.6mm, Pitch 0.95mm, Lead Span 2.8mm, IPC High Density)
footprint MF05A_M (SOT23, 5-Leads, Body 2.9x1.6mm, Pitch 0.95mm, Lead Span 2.8mm, IPC Low Density)
pins: 1 HYST (in), 2 GND (power), 3 VTEMP (out), 4 V+ (power), 5 ~{OS}, OS/~{US}, US (out)

## LM27CIM5-1HJ
designator U?
SOT-23, ±3°C Accurate, 120°C-150°C Factory Preset Thermostat; PartNumber: LM27CIM5-1HJ; Manufacturer: National Semiconductor; CompType: OtherParts; PackageTopMarking: TXPA*XTT; Published: 4-Dec-2008; DatasheetVersion: Sep-2006; PackageVersion: revD, Aug-2008; PackageReference: MF05A; Publisher: Altium Limited; PackageDescription: Molded SOT-23, .115 x .063 x .040 in Body, 5 Lead, .0375 in Pitch; RoHS: O; PinCount: 5; DigiKeyPartNumber: LM27CIM5-1HJCT-ND; Code_IPC: SOT23-5; ComponentLink1Description: LM27 Datasheet; ComponentLink1URL: http://www.national.com/ds/LM/LM27.pdf; ComponentLink2Description: LM27 Web Page; ComponentLink2URL: http://www.national.com/pf/LM/LM27.html; ComponentLink3Description: MF05A Package Page; ComponentLink3URL: http://www.national.com/packaging/folders/mf05a.html
footprint MF05A_N (SOT23, 5-Leads, Body 2.9x1.6mm, Pitch 0.95mm, Lead Span 2.8mm, IPC Medium Density)
footprint MF05A_L (SOT23, 5-Leads, Body 2.9x1.6mm, Pitch 0.95mm, Lead Span 2.8mm, IPC High Density)
footprint MF05A_M (SOT23, 5-Leads, Body 2.9x1.6mm, Pitch 0.95mm, Lead Span 2.8mm, IPC Low Density)
pins: 1 HYST (in), 2 GND (power), 3 VTEMP (out), 4 V+ (power), 5 ~{OS}, OS/~{US}, US (out)

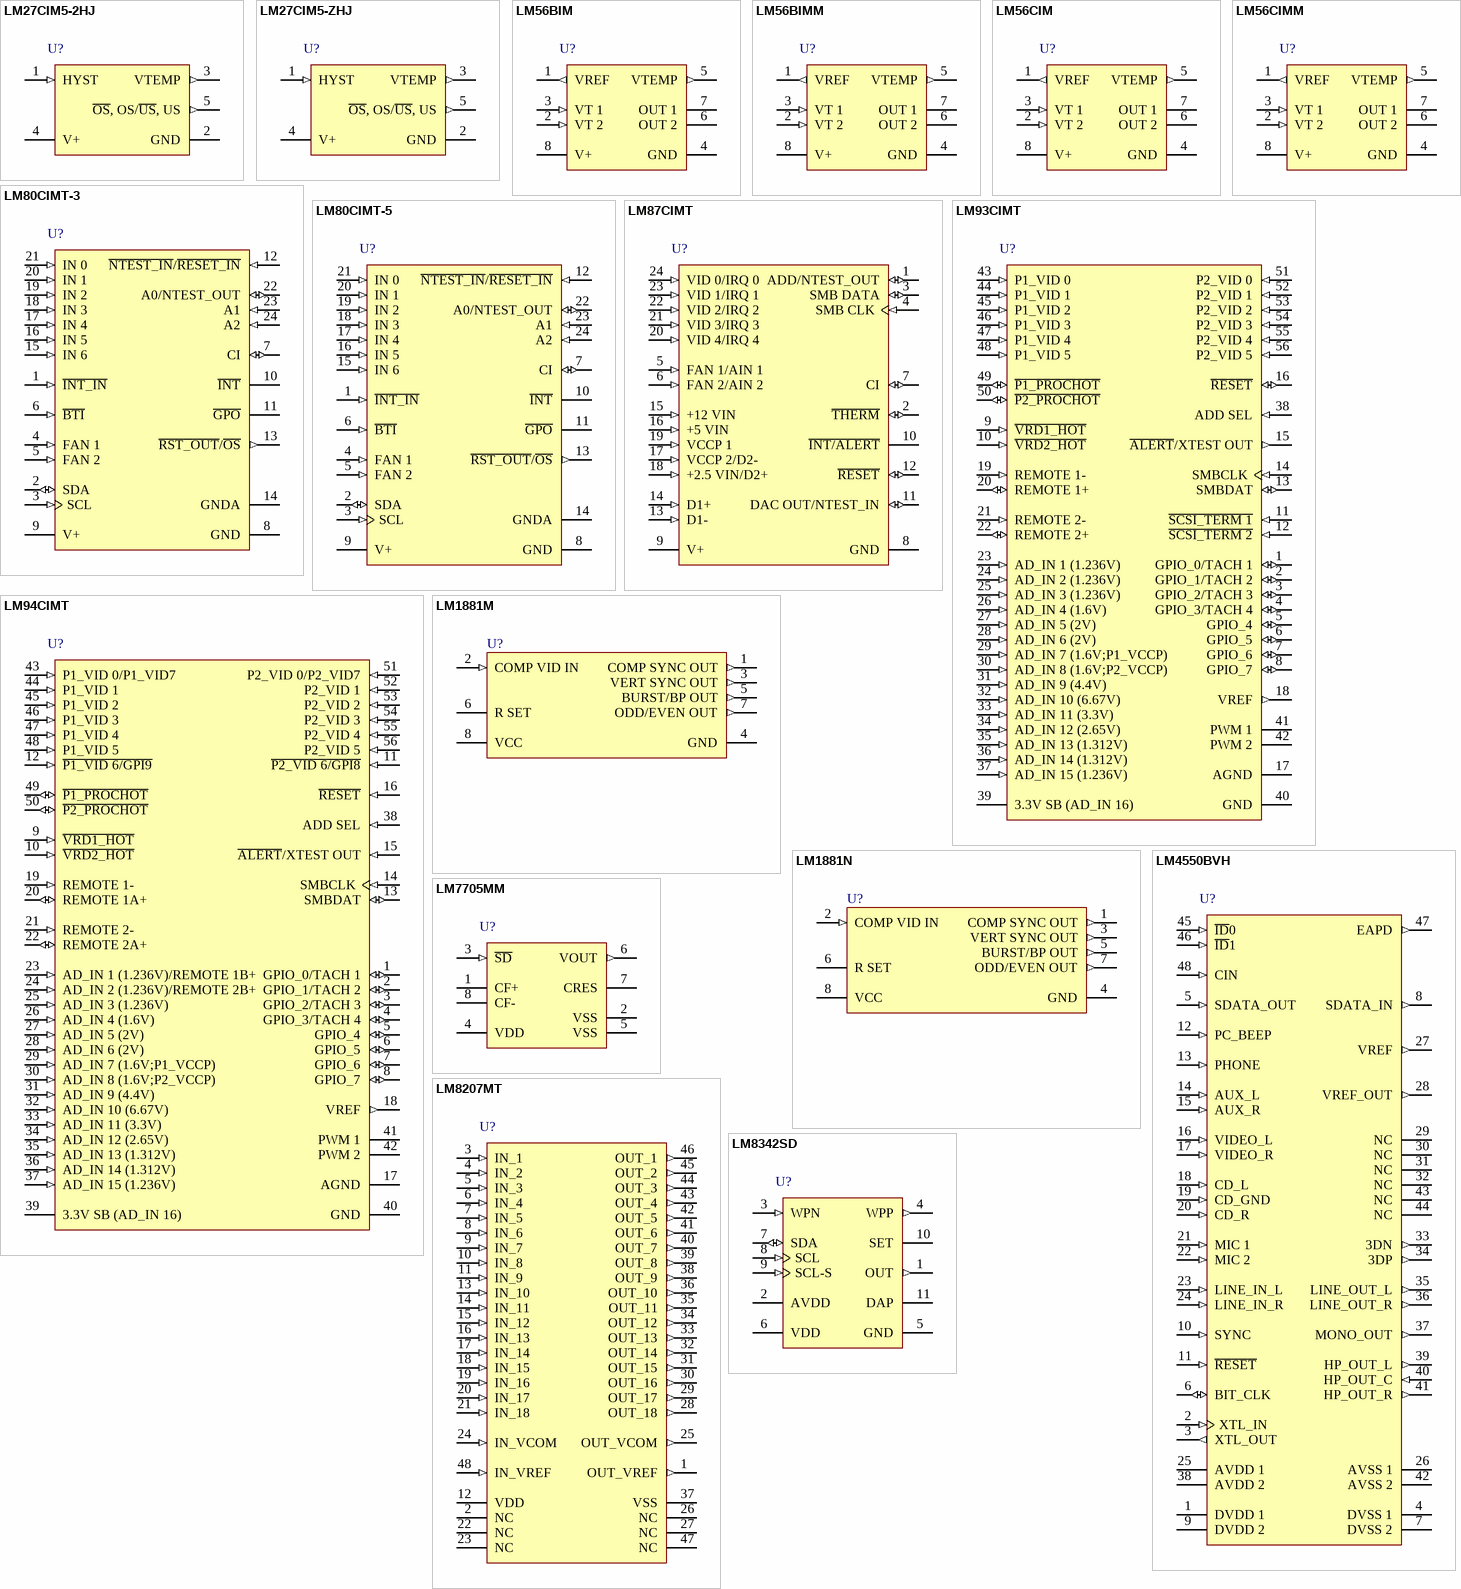
[diagram p1: symbols LM27CIM5-2HJ to LM8342SD]

## LM27CIM5-2HJ
designator U?
SOT-23, ±3°C Accurate, 120°C-150°C Factory Preset Thermostat; PartNumber: LM27CIM5-2HJ; Manufacturer: National Semiconductor; CompType: OtherParts; PackageTopMarking: TXPA*XTT; Published: 4-Dec-2008; DatasheetVersion: Sep-2006; PackageVersion: revD, Aug-2008; PackageReference: MF05A; Publisher: Altium Limited; PackageDescription: Molded SOT-23, .115 x .063 x .040 in Body, 5 Lead, .0375 in Pitch; RoHS: O; PinCount: 5; DigiKeyPartNumber: LM27CIM5-2HJCT-ND; Code_IPC: SOT23-5; ComponentLink1Description: LM27 Datasheet; ComponentLink1URL: http://www.national.com/ds/LM/LM27.pdf; ComponentLink2Description: LM27 Web Page; ComponentLink2URL: http://www.national.com/pf/LM/LM27.html; ComponentLink3Description: MF05A Package Page; ComponentLink3URL: http://www.national.com/packaging/folders/mf05a.html
footprint MF05A_N (SOT23, 5-Leads, Body 2.9x1.6mm, Pitch 0.95mm, Lead Span 2.8mm, IPC Medium Density)
footprint MF05A_L (SOT23, 5-Leads, Body 2.9x1.6mm, Pitch 0.95mm, Lead Span 2.8mm, IPC High Density)
footprint MF05A_M (SOT23, 5-Leads, Body 2.9x1.6mm, Pitch 0.95mm, Lead Span 2.8mm, IPC Low Density)
pins: 1 HYST (in), 2 GND (power), 3 VTEMP (out), 4 V+ (power), 5 ~{OS}, OS/~{US}, US (out)

## LM27CIM5-ZHJ
designator U?
SOT-23, ±3°C Accurate, 120°C-150°C Factory Preset Thermostat; PartNumber: LM27CIM5-ZHJ; Manufacturer: National Semiconductor; CompType: OtherParts; PackageTopMarking: TXPA*XTT; Published: 4-Dec-2008; DatasheetVersion: Sep-2006; PackageVersion: revD, Aug-2008; PackageReference: MF05A; Publisher: Altium Limited; PackageDescription: Molded SOT-23, .115 x .063 x .040 in Body, 5 Lead, .0375 in Pitch; RoHS: O; PinCount: 5; DigiKeyPartNumber: LM27CIM5-ZHJCT-ND; Code_IPC: SOT23-5; ComponentLink1Description: LM27 Datasheet; ComponentLink1URL: http://www.national.com/ds/LM/LM27.pdf; ComponentLink2Description: LM27 Web Page; ComponentLink2URL: http://www.national.com/pf/LM/LM27.html; ComponentLink3Description: MF05A Package Page; ComponentLink3URL: http://www.national.com/packaging/folders/mf05a.html
footprint MF05A_N (SOT23, 5-Leads, Body 2.9x1.6mm, Pitch 0.95mm, Lead Span 2.8mm, IPC Medium Density)
footprint MF05A_L (SOT23, 5-Leads, Body 2.9x1.6mm, Pitch 0.95mm, Lead Span 2.8mm, IPC High Density)
footprint MF05A_M (SOT23, 5-Leads, Body 2.9x1.6mm, Pitch 0.95mm, Lead Span 2.8mm, IPC Low Density)
pins: 1 HYST (in), 2 GND (power), 3 VTEMP (out), 4 V+ (power), 5 ~{OS}, OS/~{US}, US (out)

## LM56BIM
designator U?
Dual Output Low Power Thermostat; PartNumber: LM56BIM; Manufacturer: National Semiconductor; CompType: OtherParts; PackageTopMarking: TXPA*XTT; Published: 4-Dec-2008; DatasheetVersion: Jan-2006; PackageVersion: revL, Sep-2006; PackageReference: M08A; Publisher: Altium Limited; PackageDescription: SOIC Narrow, 4.9 x 3.9 x 1.45mm, 8 Lead, 1.27mm Pitch; RoHS: O; PinCount: 8; DigiKeyPartNumber: LM56BIM-ND; Code_JEDEC: MS-012-AA; Code_IPC: SOIC127P600-8; ComponentLink1Description: LM56 Datasheet; ComponentLink1URL: http://www.national.com/ds/LM/LM56.pdf; ComponentLink2Description: LM56 Web Page; ComponentLink2URL: http://www.national.com/pf/LM/LM56.html; ComponentLink3Description: M08A Package Page; ComponentLink3URL: http://www.national.com/packaging/folders/m08a.html
footprint M08A_N (SOIC, 8-Leads, Body 4.9x3.9mm, Pitch 1.27mm, IPC Medium Density)
footprint M08A_L (SOIC, 8-Leads, Body 4.9x3.9mm, Pitch 1.27mm, IPC High Density)
footprint M08A_M (SOIC, 8-Leads, Body 4.9x3.9mm, Pitch 1.27mm, IPC Low Density)
pins: 1 VREF (out), 2 VT 2 (in), 3 VT 1 (in), 4 GND (power), 5 VTEMP (out), 6 OUT 2 (oc), 7 OUT 1 (oc), 8 V+ (power)

## LM56BIMM
designator U?
Dual Output Low Power Thermostat; PartNumber: LM56BIMM; Manufacturer: National Semiconductor; CompType: OtherParts; PackageTopMarking: TXPA*XTT; Published: 4-Dec-2008; DatasheetVersion: Jan-2006; PackageVersion: revF, Apr-2008; PackageReference: MUA08A; Publisher: Altium Limited; PackageDescription: MINI SOIC, .118 x .118 x .034in, 8 Lead, .0256in Pitch; RoHS: O; PinCount: 8; DigiKeyPartNumber: LM56BIMMCT-ND; Code_JEDEC: MO-187-AA; ComponentLink1Description: LM56 Datasheet; ComponentLink1URL: http://www.national.com/ds/LM/LM56.pdf; ComponentLink2Description: LM56 Web Page; ComponentLink2URL: http://www.national.com/pf/LM/LM56.html; ComponentLink3Description: MUA08A Package Page; ComponentLink3URL: http://www.national.com/packaging/folders/mua08a.html
footprint MUA08A_N (TSOP, 8-Leads, Body 3x3mm, Pitch 0.65mm, IPC Medium Density)
footprint MUA08A_L (TSOP, 8-Leads, Body 3x3mm, Pitch 0.65mm, IPC High Density)
footprint MUA08A_M (TSOP, 8-Leads, Body 3x3mm, Pitch 0.65mm, IPC Low Density)
pins: 1 VREF (out), 2 VT 2 (in), 3 VT 1 (in), 4 GND (power), 5 VTEMP (out), 6 OUT 2 (oc), 7 OUT 1 (oc), 8 V+ (power)

## LM56CIM
designator U?
Dual Output Low Power Thermostat; PartNumber: LM56CIM; Manufacturer: National Semiconductor; CompType: OtherParts; PackageTopMarking: TXPA*XTT; Published: 4-Dec-2008; DatasheetVersion: Jan-2006; PackageVersion: revL, Sep-2006; PackageReference: M08A; Publisher: Altium Limited; PackageDescription: SOIC Narrow, 4.9 x 3.9 x 1.45mm, 8 Lead, 1.27mm Pitch; RoHS: O; PinCount: 8; DigiKeyPartNumber: LM56CIM-ND; Code_JEDEC: MS-012-AA; Code_IPC: SOIC127P600-8; ComponentLink1Description: LM56 Datasheet; ComponentLink1URL: http://www.national.com/ds/LM/LM56.pdf; ComponentLink2Description: LM56 Web Page; ComponentLink2URL: http://www.national.com/pf/LM/LM56.html; ComponentLink3Description: M08A Package Page; ComponentLink3URL: http://www.national.com/packaging/folders/m08a.html
footprint M08A_N (SOIC, 8-Leads, Body 4.9x3.9mm, Pitch 1.27mm, IPC Medium Density)
footprint M08A_L (SOIC, 8-Leads, Body 4.9x3.9mm, Pitch 1.27mm, IPC High Density)
footprint M08A_M (SOIC, 8-Leads, Body 4.9x3.9mm, Pitch 1.27mm, IPC Low Density)
pins: 1 VREF (out), 2 VT 2 (in), 3 VT 1 (in), 4 GND (power), 5 VTEMP (out), 6 OUT 2 (oc), 7 OUT 1 (oc), 8 V+ (power)

## LM56CIMM
designator U?
Dual Output Low Power Thermostat; PartNumber: LM56CIMM; Manufacturer: National Semiconductor; CompType: OtherParts; PackageTopMarking: TXPA*XTT; Published: 4-Dec-2008; DatasheetVersion: Jan-2006; PackageVersion: revF, Apr-2008; PackageReference: MUA08A; Publisher: Altium Limited; PackageDescription: MINI SOIC, .118 x .118 x .034in, 8 Lead, .0256in Pitch; RoHS: O; PinCount: 8; DigiKeyPartNumber: LM56CIMMCT-ND; Code_JEDEC: MO-187-AA; ComponentLink1Description: LM56 Datasheet; ComponentLink1URL: http://www.national.com/ds/LM/LM56.pdf; ComponentLink2Description: LM56 Web Page; ComponentLink2URL: http://www.national.com/pf/LM/LM56.html; ComponentLink3Description: MUA08A Package Page; ComponentLink3URL: http://www.national.com/packaging/folders/mua08a.html
footprint MUA08A_N (TSOP, 8-Leads, Body 3x3mm, Pitch 0.65mm, IPC Medium Density)
footprint MUA08A_L (TSOP, 8-Leads, Body 3x3mm, Pitch 0.65mm, IPC High Density)
footprint MUA08A_M (TSOP, 8-Leads, Body 3x3mm, Pitch 0.65mm, IPC Low Density)
pins: 1 VREF (out), 2 VT 2 (in), 3 VT 1 (in), 4 GND (power), 5 VTEMP (out), 6 OUT 2 (oc), 7 OUT 1 (oc), 8 V+ (power)

## LM80CIMT-3
designator U?
Serial Interface ACPI-Compatible Microprocessor System Hardware Monitor; PartNumber: LM80CIMT-3; Manufacturer: National Semiconductor; CompType: OtherParts; PackageTopMarking: NSUZXYTT*LM80*CIMT-3; Published: 4-Dec-2008; DatasheetVersion: Jun-2001; PackageVersion: revE, Mar-2003; PackageReference: MTC24; Publisher: Altium Limited; PackageDescription: Molded TSSOP, Jedec, 7.8 x 4.4 x 0.9mm Body, 24 Lead, 0.65mm Pitch; PinCount: 24; DigiKeyPartNumber: LM80CIMT-3-ND; Code_JEDEC: MO-153-AD; ComponentLink1Description: LM80 Datasheet; ComponentLink1URL: http://www.national.com/ds/LM/LM80.pdf; ComponentLink2Description: LM80 Web Page; ComponentLink2URL: http://www.national.com/pf/LM/LM80.html; ComponentLink3Description: MTC24 Package Page; ComponentLink3URL: http://www.national.com/packaging/folders/mtc24.html
footprint MTC24_N (TSOP, 24-Leads, Body 7.8x4.4mm, Pitch 0.65mm, IPC Medium Density)
footprint MTC24_L (TSOP, 24-Leads, Body 7.8x4.4mm, Pitch 0.65mm, IPC High Density)
footprint MTC24_M (TSOP, 24-Leads, Body 7.8x4.4mm, Pitch 0.65mm, IPC Low Density)
pins: 1 ~{INT_IN} (in), 2 SDA (io), 3 SCL (in), 4 FAN 1 (in), 5 FAN 2 (in), 6 ~{BTI} (in), 7 CI (io), 8 GND (power), 9 V+ (power), 10 ~{INT} (oe), 11 ~{GPO} (oe), 12 ~{NTEST_IN}/~{RESET_IN} (in), 13 ~{RST_OUT}/~{OS} (out), 14 GNDA (power), 15 IN 6 (in), 16 IN 5 (in), 17 IN 4 (in), 18 IN 3 (in), 19 IN 2 (in), 20 IN 1 (in), 21 IN 0 (in), 22 A0/NTEST_OUT (io), 23 A1 (in), 24 A2 (in)

## LM80CIMT-5
designator U?
Serial Interface ACPI-Compatible Microprocessor System Hardware Monitor; PartNumber: LM80CIMT-5; Manufacturer: National Semiconductor; CompType: OtherParts; PackageTopMarking: TXPA*XTT; Published: 4-Dec-2008; DatasheetVersion: Jun-2001; PackageVersion: revE, Mar-2003; PackageReference: MTC24; Publisher: Altium Limited; PackageDescription: Molded TSSOP, Jedec, 7.8 x 4.4 x 0.9mm Body, 24 Lead, 0.65mm Pitch; RoHS: O; PinCount: 24; DigiKeyPartNumber: LM80CIMT-5-ND; Code_JEDEC: MO-153-AD; ComponentLink1Description: LM80 Datasheet; ComponentLink1URL: http://www.national.com/ds/LM/LM80.pdf; ComponentLink2Description: LM80 Web Page; ComponentLink2URL: http://www.national.com/pf/LM/LM80.html; ComponentLink3Description: MTC24 Package Page; ComponentLink3URL: http://www.national.com/packaging/folders/mtc24.html
footprint MTC24_N (TSOP, 24-Leads, Body 7.8x4.4mm, Pitch 0.65mm, IPC Medium Density)
footprint MTC24_L (TSOP, 24-Leads, Body 7.8x4.4mm, Pitch 0.65mm, IPC High Density)
footprint MTC24_M (TSOP, 24-Leads, Body 7.8x4.4mm, Pitch 0.65mm, IPC Low Density)
pins: 1 ~{INT_IN} (in), 2 SDA (io), 3 SCL (in), 4 FAN 1 (in), 5 FAN 2 (in), 6 ~{BTI} (in), 7 CI (io), 8 GND (power), 9 V+ (power), 10 ~{INT} (oe), 11 ~{GPO} (oe), 12 ~{NTEST_IN}/~{RESET_IN} (in), 13 ~{RST_OUT}/~{OS} (out), 14 GNDA (power), 15 IN 6 (in), 16 IN 5 (in), 17 IN 4 (in), 18 IN 3 (in), 19 IN 2 (in), 20 IN 1 (in), 21 IN 0 (in), 22 A0/NTEST_OUT (io), 23 A1 (in), 24 A2 (in)

## LM87CIMT
designator U?
Serial Interface System Hardware Monitor with Remote Diode Temperature Sensing; PartNumber: LM87CIMT; Manufacturer: National Semiconductor; CompType: OtherParts; PackageTopMarking: TXPA*XTT; Published: 4-Dec-2008; DatasheetVersion: Dec-2003; PackageVersion: revE, Mar-2003; PackageReference: MTC24; Publisher: Altium Limited; PackageDescription: Molded TSSOP, Jedec, 7.8 x 4.4 x 0.9mm Body, 24 Lead, 0.65mm Pitch; RoHS: O; PinCount: 24; DigiKeyPartNumber: LM87CIMT-ND; Code_JEDEC: MO-153-AD; ComponentLink1Description: LM87 Datasheet; ComponentLink1URL: http://www.national.com/ds/LM/LM87.pdf; ComponentLink2Description: LM87 Web Page; ComponentLink2URL: http://www.national.com/pf/LM/LM87.html; ComponentLink3Description: MTC24 Package Page; ComponentLink3URL: http://www.national.com/packaging/folders/mtc24.html
footprint MTC24_N (TSOP, 24-Leads, Body 7.8x4.4mm, Pitch 0.65mm, IPC Medium Density)
footprint MTC24_L (TSOP, 24-Leads, Body 7.8x4.4mm, Pitch 0.65mm, IPC High Density)
footprint MTC24_M (TSOP, 24-Leads, Body 7.8x4.4mm, Pitch 0.65mm, IPC Low Density)
pins: 1 ADD/NTEST_OUT (io), 2 ~{THERM} (io), 3 SMB DATA (io), 4 SMB CLK (in), 5 FAN 1/AIN 1 (in), 6 FAN 2/AIN 2 (in), 7 CI (io), 8 GND (power), 9 V+ (power), 10 ~{INT/ALERT} (oe), 11 DAC OUT/NTEST_IN (io), 12 ~{RESET} (io), 13 D1- (in), 14 D1+ (in), 15 +12 VIN (in), 16 +5 VIN (in), 17 VCCP 2/D2- (in), 18 +2.5 VIN/D2+ (in), 19 VCCP 1 (in), 20 VID 4/IRQ 4 (in), 21 VID 3/IRQ 3 (in), 22 VID 2/IRQ 2 (in), 23 VID 1/IRQ 1 (in), 24 VID 0/IRQ 0 (in)

## LM93CIMT
designator U?
Hardware Monitor with Integrated Fan Control for Server Management; PartNumber: LM93CIMT; Manufacturer: National Semiconductor; CompType: OtherParts; PackageTopMarking: TXPA*XTT; Published: 4-Dec-2008; DatasheetVersion: Apr-2004; PackageVersion: revD, Apr-2003; PackageReference: MTD56; Publisher: Altium Limited; PackageDescription: Molded TSSOP, Jedec, 14 x 6.1 x 0.9mm Body, 56 Lead, 0.50mm Pitch; RoHS: O; PinCount: 56; DigiKeyPartNumber: LM93CIMT-ND; Code_IPC: TSSOP50P810-56; ComponentLink1Description: LM93 Datasheet; ComponentLink1URL: http://www.national.com/ds/LM/LM93.pdf; ComponentLink2Description: LM93 Web Page; ComponentLink2URL: http://www.national.com/pf/LM/LM93.html; ComponentLink3Description: MTD56 Package Page; ComponentLink3URL: http://www.national.com/packaging/folders/mtd56.html
footprint MTD56_N (TSSOP, 56-Leads, Body 14x6.1mm, Pitch 0.5mm, IPC Medium Density)
footprint MTD56_L (TSSOP, 56-Leads, Body 14x6.1mm, Pitch 0.5mm, IPC High Density)
footprint MTD56_M (TSSOP, 56-Leads, Body 14x6.1mm, Pitch 0.5mm, IPC Low Density)
pins: 1 GPIO_0/TACH 1 (io), 2 GPIO_1/TACH 2 (io), 3 GPIO_2/TACH 3 (io), 4 GPIO_3/TACH 4 (io), 5 GPIO_4 (io), 6 GPIO_5 (io), 7 GPIO_6 (io), 8 GPIO_7 (io), 9 ~{VRD1_HOT} (in), 10 ~{VRD2_HOT} (in), 11 ~{SCSI_TERM 1} (in), 12 ~{SCSI_TERM 2} (in), 13 SMBDAT (io), 14 SMBCLK (in), 15 ~{ALERT}/XTEST OUT (out), 16 ~{RESET} (io), 17 AGND (power), 18 VREF (out), 19 REMOTE 1- (in), 20 REMOTE 1+ (io), 21 REMOTE 2- (in), 22 REMOTE 2+ (io), 23 AD_IN 1 (1.236V) (in), 24 AD_IN 2 (1.236V) (in), 25 AD_IN 3 (1.236V) (in), 26 AD_IN 4 (1.6V) (in), 27 AD_IN 5 (2V) (in), 28 AD_IN 6 (2V) (in), 29 AD_IN 7 (1.6V;P1_VCCP) (in), 30 AD_IN 8 (1.6V;P2_VCCP) (in), 31 AD_IN 9 (4.4V) (in), 32 AD_IN 10 (6.67V) (in), 33 AD_IN 11 (3.3V) (in), 34 AD_IN 12 (2.65V) (in), 35 AD_IN 13 (1.312V) (in), 36 AD_IN 14 (1.312V) (in), 37 AD_IN 15 (1.236V) (in), 38 ADD SEL (in), 39 3.3V SB (AD_IN 16) (power), 40 GND (power), 41 PWM 1 (oe), 42 PWM 2 (oe), 43 P1_VID 0 (in), 44 P1_VID 1 (in), 45 P1_VID 2 (in), 46 P1_VID 3 (in), 47 P1_VID 4 (in), 48 P1_VID 5 (in), 49 ~{P1_PROCHOT} (io), 50 ~{P2_PROCHOT} (io), 51 P2_VID 0 (in), 52 P2_VID 1 (in), 53 P2_VID 2 (in), 54 P2_VID 3 (in), 55 P2_VID 4 (in), 56 P2_VID 5 (in)

## LM94CIMT
designator U?
TruTherm Hardware Monitor with PI Loop Fan Control for Server Management; PartNumber: LM94CIMT; Manufacturer: National Semiconductor; CompType: OtherParts; PackageTopMarking: TXPA*XTT; Published: 4-Dec-2008; DatasheetVersion: May-2006; PackageVersion: revD, Apr-2003; PackageReference: MTD56; Publisher: Altium Limited; PackageDescription: Molded TSSOP, Jedec, 14 x 6.1 x 0.9mm Body, 56 Lead, 0.50mm Pitch; RoHS: O; PinCount: 56; DigiKeyPartNumber: LM94CIMT-ND; Code_IPC: TSSOP50P810-56; ComponentLink1Description: LM94 Datasheet; ComponentLink1URL: http://www.national.com/ds/LM/LM94.pdf; ComponentLink2Description: LM94 Web Page; ComponentLink2URL: http://www.national.com/pf/LM/LM94.html; ComponentLink3Description: MTD56 Package Page; ComponentLink3URL: http://www.national.com/packaging/folders/mtd56.html
footprint MTD56_N (TSSOP, 56-Leads, Body 14x6.1mm, Pitch 0.5mm, IPC Medium Density)
footprint MTD56_L (TSSOP, 56-Leads, Body 14x6.1mm, Pitch 0.5mm, IPC High Density)
footprint MTD56_M (TSSOP, 56-Leads, Body 14x6.1mm, Pitch 0.5mm, IPC Low Density)
pins: 1 GPIO_0/TACH 1 (io), 2 GPIO_1/TACH 2 (io), 3 GPIO_2/TACH 3 (io), 4 GPIO_3/TACH 4 (io), 5 GPIO_4 (io), 6 GPIO_5 (io), 7 GPIO_6 (io), 8 GPIO_7 (io), 9 ~{VRD1_HOT} (in), 10 ~{VRD2_HOT} (in), 11 ~{P2_VID 6/GPI8} (in), 12 ~{P1_VID 6/GPI9} (in), 13 SMBDAT (io), 14 SMBCLK (in), 15 ~{ALERT}/XTEST OUT (in), 16 ~{RESET} (in), 17 AGND (power), 18 VREF (out), 19 REMOTE 1- (in), 20 REMOTE 1A+ (io), 21 REMOTE 2- (in), 22 REMOTE 2A+ (io), 23 AD_IN 1 (1.236V)/REMOTE 1B+ (in), 24 AD_IN 2 (1.236V)/REMOTE 2B+ (in), 25 AD_IN 3 (1.236V) (in), 26 AD_IN 4 (1.6V) (in), 27 AD_IN 5 (2V) (in), 28 AD_IN 6 (2V) (in), 29 AD_IN 7 (1.6V;P1_VCCP) (in), 30 AD_IN 8 (1.6V;P2_VCCP) (in), 31 AD_IN 9 (4.4V) (in), 32 AD_IN 10 (6.67V) (in), 33 AD_IN 11 (3.3V) (in), 34 AD_IN 12 (2.65V) (in), 35 AD_IN 13 (1.312V) (in), 36 AD_IN 14 (1.312V) (in), 37 AD_IN 15 (1.236V) (in), 38 ADD SEL (in), 39 3.3V SB (AD_IN 16) (power), 40 GND (power), 41 PWM 1 (oe), 42 PWM 2 (oe), 43 P1_VID 0/P1_VID7 (in), 44 P1_VID 1 (in), 45 P1_VID 2 (in), 46 P1_VID 3 (in), 47 P1_VID 4 (in), 48 P1_VID 5 (in), 49 ~{P1_PROCHOT} (io), 50 ~{P2_PROCHOT} (io), 51 P2_VID 0/P2_VID7 (in), 52 P2_VID 1 (in), 53 P2_VID 2 (in), 54 P2_VID 3 (in), 55 P2_VID 4 (in), 56 P2_VID 5 (in)

## LM1881M
designator U?
Video Sync Separator; PartNumber: LM1881M; Manufacturer: National Semiconductor; CompType: OtherParts; PackageTopMarking: NSZXTT*LM*1881M; Published: 4-Dec-2008; DatasheetVersion: May-2006; PackageVersion: revL, Sep-2006; PackageReference: M08A; Publisher: Altium Limited; PackageDescription: SOIC Narrow, 4.9 x 3.9 x 1.45mm, 8 Lead, 1.27mm Pitch; RoHS: O; Pin Count: 8; DigiKeyPartNumber: LM1881M-ND; Code_JEDEC: MS-012-AA; Code_IPC: SOIC127P600-8; ComponentLink1Description: LM1881 Datasheet; ComponentLink1URL: http://www.national.com/ds/LM/LM1881.pdf; ComponentLink2Description: LM1881 Web Page; ComponentLink2URL: http://www.national.com/mpf/LM/LM1881.html; ComponentLink3Description: M08A Package Page; ComponentLink3URL: http://www.national.com/packaging/folders/m08a.html
footprint M08A_N (SOIC, 8-Leads, Body 4.9x3.9mm, Pitch 1.27mm, IPC Medium Density)
footprint M08A_L (SOIC, 8-Leads, Body 4.9x3.9mm, Pitch 1.27mm, IPC High Density)
footprint M08A_M (SOIC, 8-Leads, Body 4.9x3.9mm, Pitch 1.27mm, IPC Low Density)
pins: 1 COMP SYNC OUT (out), 2 COMP VID IN (in), 3 VERT SYNC OUT (out), 4 GND (power), 5 BURST/BP OUT (out), 6 R SET, 7 ODD/EVEN OUT (out), 8 VCC (power)

## LM1881N
designator U?
Video Sync Separator; PartNumber: LM1881N; Manufacturer: National Semiconductor; CompType: OtherParts; PackageTopMarking: NSUZXYTT*LM1881N; Published: 4-Dec-2008; DatasheetVersion: May-2006; PackageVersion: revG, May-2006; PackageReference: N08E; Publisher: Altium Limited; PackageDescription: MDIP, .365 x .250 x .130in, 8 Lead, .100in Pitch; RoHS: O; Pin Count: 8; DigiKeyPartNumber: LM1881N-ND; Code_JEDEC: MS-001-BA; ComponentLink1Description: LM1881 Datasheet; ComponentLink1URL: http://www.national.com/ds/LM/LM1881.pdf; ComponentLink2Description: LM1881 Web Page; ComponentLink2URL: http://www.national.com/mpf/LM/LM1881.html; ComponentLink3Description: N08E Package Page; ComponentLink3URL: http://www.national.com/packaging/folders/n08e.html
footprint N08E (DIP, 8-Leads, Row Spacing 7.62mm, Pitch 2.54mm, Body 9.91x6.35mm)
pins: 1 COMP SYNC OUT (out), 2 COMP VID IN (in), 3 VERT SYNC OUT (out), 4 GND (power), 5 BURST/BP OUT (out), 6 R SET, 7 ODD/EVEN OUT (out), 8 VCC (power)